# Altium footprint library Connector.PcbLib: 159 footprints (part 1 of 10)
Each footprint in its own frame and in the unit in brackets; x right, y up, seen from the top. Pads: shape width x height; smd on the part's side, far side on the other; paste and mask are expansions set on the pad; w line width, h text height; cw(c..) or ccw(c..) is an arc to the next point about the centre after c.
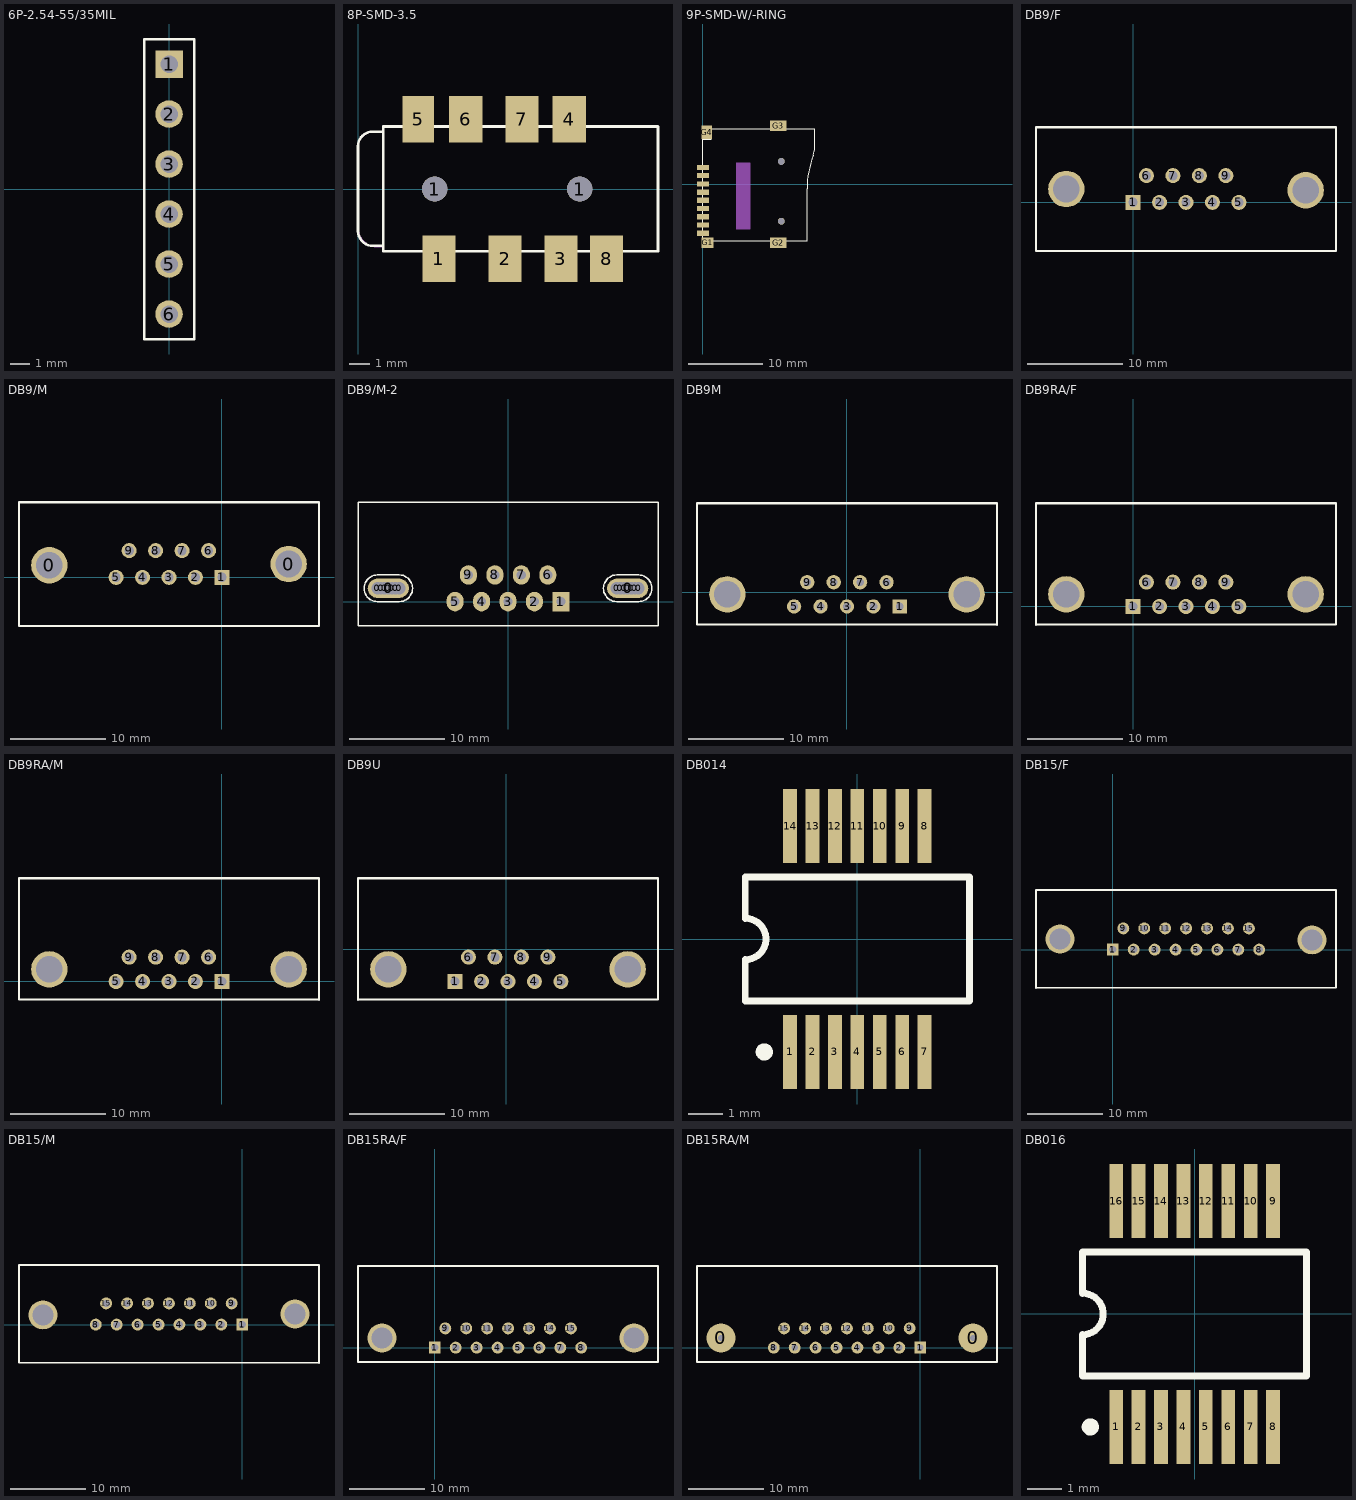
[diagram p0: the footprints below, top view; thin cyan lines are the x and y axes]

## 6P-2.54-55/35MIL [mil] "6P-2.54-55/35MIL"
pads (6):
  rect 55x55 hole 35: 1(0,250)
  round 55 hole 35: 2(0,150) 3(0,50) 4(0,-50) 5(0,-150) 6(0,-250)
Top Overlay:
  lines w5: -50,-300 -50,300 50,300 50,-300 -50,-300
Mechanical 2:
Mechanical 4:
Mechanical 16:
  lines w0: -50,-300 -50,300 50,300 50,-300 -50,-300
Mechanical 23:
  text ">name" at 25,-100 h38.75

## 8P-SMD-3.5 [mil] "8P-SMD-3.5"
pads (10):
  round 48 hole 48: 1(146,0) 1(422,0)
  rect 63x89 smd: 1(154,-132.87) 2(280,-132.87) 3(386,-132.87) 4(402,133) 6(205,133) 7(312,133) 8(473,-132.87)
  rect 60x89 smd: 5(115,133)
Top Overlay:
  lines w5: 48,-108.27 29,-108.27 cw(c28.65,-79.62) 0,-79.97 0,82 cw(c27.5,81.5) 28,109 48,109 ; 48,-108.27 48,-118.11 571,-118.11 571,119 48,119 48,109 ; 48,-108.27 48,109
Mechanical 2:
Mechanical 4:
Mechanical 11:
  lines w1: 0,-73.6 ccw(c36.7,-73.3) 37,-110 48,-110 48,108 28,108 ccw(c28,80) 0,80 0,-73.6

## 9P-SMD-W/-RING [mil] "9P-SMD-W/-RING"
pads (15):
  rect 63x28 smd: 1(0,89) 2(0,46) 3(0,2) 4(0,-41.34) 5(0,-84.65) 6(0,-127.95) 7(0,-171.26) 8(0,-214.57) 9(0,-257.87)
  round 36 hole 36: 1(414,-194.88) 1(414,121)
  rect 63x56 smd: G1(24,-309.06)
  rect 87x56 smd: G2(398,-309.06) G3(398,310)
  rect 56x71 smd: G4(20,274)
Top Overlay:
  lines w5: 0,-297.52 550,-297.52 550,-24.53 cw(c1051.58,-24.93) 583,154 ccw(c480.54,192.52) 590,193 590,293 45,293 45,238 0,238 0,-297.52
Mechanical 2:
Mechanical 4:
Mechanical 8:
  rectangle: 174,-240.16 252,115
Mechanical 23:
  text ">name" at 190,85 h15.5

## DB9/F [mil]
pads (11):
  rect 62x62 hole 38: 1(0,0)
  round 62 hole 38: 2(109,0) 3(218,0) 4(327,0) 5(436,0) 6(55,110) 7(164,110) 8(273,110) 9(382,110)
  round 150 hole 110: ""(-275,55) ""(711,50)
Top Overlay:
  lines w8: -400,-200 836,-200 836,310
  lines w10: -400,-200 -400,310 836,310

## DB9/M [mil]
pads (11):
  round 150 hole 110: 0(-711,50) 0(275,55)
  rect 62x62 hole 38: 1(0,0)
  round 62 hole 38: 2(-109,0) 3(-218,0) 4(-327,0) 5(-436,0) 6(-55,110) 7(-164,110) 8(-273,110) 9(-382,110)
Top Overlay:
  lines w8: -836,310 -836,-200 400,-200
  lines w10: -836,310 400,310 400,-200

## DB9/M-2 [mil]
pads (25):
  round 50 hole 50: 0(-538,55) 0(-523,55) 0(-508,55) 0(-493,55) 0(-478,55) 0(-463,55) 0(-448,55) 0(448,55) 0(463,55) 0(478,55) 0(493,55) 0(508,55) 0(523,55) 0(538,55)
  oval 170x80 hole 50: 0(-493,55) 0(493,55)
  rect 70x80 hole 38: 1(218,0)
  oval 70x80 hole 38: 2(109,0) 3(0,0) 4(-109,0) 5(-218,0) 6(164,110) 7(55,110) 8(-54,110) 9(-163,110)
Top Overlay:
  lines w6: -618,-100 -618,410 618,410 618,-100 -618,-100 ; -538,0 cw(c-538,55) -538,110 -448,110 cw(c-448,55) -448,0 -538,0 ; 448,0 cw(c448,55) 448,110 538,110 cw(c538,55) 538,0 448,0

## DB9M [mm]
pads (11):
  rect 1.5x1.5 hole 0.8: 1(5.554,-1.474)
  round 1.5 hole 0.8: 2(2.785,-1.474) 3(0.017,-1.474) 4(-2.752,-1.474) 5(-5.52,-1.474) 6(4.157,1.066) 7(1.388,1.066) 8(-1.38,1.066) 9(-4.149,1.066)
  round 3.8 hole 2.8: ""(-12.505,-0.204) ""(12.539,-0.204)
Top Overlay:
  lines w0.203: -15.68,9.321 -15.68,-3.379 15.714,-3.379
  lines w0.254: -15.68,9.321 15.714,9.321 15.714,-3.379

## DB9RA/F [mil]
pads (11):
  rect 62x62 hole 38: 1(0,0)
  round 62 hole 38: 2(109,0) 3(218,0) 4(327,0) 5(436,0) 6(55,100) 7(164,100) 8(273,100) 9(382,100)
  round 150 hole 110: ""(-275,50) ""(711,50)
Top Overlay:
  lines w8: -400,-75 836,-75 836,425
  lines w10: -400,-75 -400,425 836,425

## DB9RA/M [mil]
pads (11):
  rect 62x62 hole 38: 1(0,0)
  round 62 hole 38: 2(-109,0) 3(-218,0) 4(-327,0) 5(-436,0) 6(-55,100) 7(-164,100) 8(-273,100) 9(-382,100)
  round 150 hole 110: ""(-711,50) ""(275,50)
Top Overlay:
  lines w8: -836,425 -836,-75 400,-75
  lines w10: -836,425 400,425 400,-75

## DB9U [mil]
pads (11):
  rect 62x62 hole 38: 1(-211.81,-133.23)
  round 62 hole 38: 2(-102.81,-133.23) 3(6.19,-133.23) 4(115.19,-133.23) 5(224.19,-133.23) 6(-156.81,-33.23) 7(-47.81,-33.23) 8(61.19,-33.23) 9(170.19,-33.23)
  round 150 hole 110: ""(-486.81,-83.23) ""(499.19,-83.23)
Top Overlay:
  lines w8: -611.81,-208.23 624.19,-208.23 624.19,291.77
  lines w10: -611.81,-208.23 -611.81,291.77 624.19,291.77

## DB014 [mm] "SSOP, Plastic; 14 Leads; Body Width 5.3 mm; Pitch 0.65 mm"
height 2
pads (14):
  rect 0.4x2.15 smd: 1(-1.95,-3.275) 2(-1.3,-3.275) 3(-0.65,-3.275) 4(0,-3.275) 5(0.65,-3.275) 6(1.3,-3.275) 7(1.95,-3.275) 8(1.95,3.275) 9(1.3,3.275) 10(0.65,3.275) 11(0,3.275) 12(-0.65,3.275) 13(-1.3,3.275) 14(-1.95,3.275)
Top Overlay:
  circle w0.25: c-2.7,-3.275 r0.125
  lines w0.2: -3.25,-1.8 3.25,-1.8 3.25,1.8 -3.25,1.8 -3.25,0.6 cw(c-3.25,0) -3.25,-0.6 -3.25,-1.8

## DB15/F [mil]
pads (17):
  rect 62x62 hole 38: 1(0,0)
  round 62 hole 38: 2(109,0) 3(218,0) 4(327,0) 5(436,0) 6(545,0) 7(654,0) 8(763,0) 9(55,110) 10(164,110) 11(273,110) 12(382,110) 13(491,110) 14(600,110) 15(709,110)
  round 150 hole 110: ""(-275,55) ""(1038,50)
Top Overlay:
  lines w8: -400,-200 1163,-200 1163,310
  lines w10: -400,-200 -400,310 1163,310

## DB15/M [mil]
pads (17):
  rect 62x62 hole 38: 1(0,0)
  round 62 hole 38: 2(-109,0) 3(-218,0) 4(-327,0) 5(-436,0) 6(-545,0) 7(-654,0) 8(-763,0) 9(-55,110) 10(-164,110) 11(-273,110) 12(-382,110) 13(-491,110) 14(-600,110) 15(-709,110)
  round 150 hole 110: ""(-1038,50) ""(275,55)
Top Overlay:
  lines w8: -1163,310 -1163,-200 400,-200
  lines w10: -1163,310 400,310 400,-200

## DB15RA/F [mil]
pads (17):
  rect 62x62 hole 38: 1(0,0)
  round 62 hole 38: 2(109,0) 3(218,0) 4(327,0) 5(436,0) 6(545,0) 7(654,0) 8(763,0) 9(55,100) 10(164,100) 11(273,100) 12(382,100) 13(491,100) 14(600,100) 15(709,100)
  round 150 hole 110: ""(-275,50) ""(1038,50)
Top Overlay:
  lines w8: -400,-75 1163,-75 1163,425
  lines w10: -400,-75 -400,425 1163,425

## DB15RA/M [mil]
pads (17):
  round 150 hole 32: 0(-1038,50) 0(275,50)
  rect 62x62 hole 32: 1(0,0)
  round 62 hole 32: 2(-109,0) 3(-218,0) 4(-327,0) 5(-436,0) 6(-545,0) 7(-654,0) 8(-763,0) 9(-55,100) 10(-164,100) 11(-273,100) 12(-382,100) 13(-491,100) 14(-600,100) 15(-709,100)
Top Overlay:
  lines w8: -1163,425 -1163,-75 400,-75
  lines w10: -1163,425 400,425 400,-75

## DB016 [mm] "SSOP, Plastic; 16 Leads; Body Width 5.3 mm; Pitch 0.65 mm"
height 2
pads (16):
  rect 0.4x2.15 smd: 1(-2.275,-3.275) 2(-1.625,-3.275) 3(-0.975,-3.275) 4(-0.325,-3.275) 5(0.325,-3.275) 6(0.975,-3.275) 7(1.625,-3.275) 8(2.275,-3.275) 9(2.275,3.275) 10(1.625,3.275) 11(0.975,3.275) 12(0.325,3.275) 13(-0.325,3.275) 14(-0.975,3.275) 15(-1.625,3.275) 16(-2.275,3.275)
Top Overlay:
  circle w0.25: c-3.025,-3.275 r0.125
  lines w0.2: -3.25,-1.8 3.25,-1.8 3.25,1.8 -3.25,1.8 -3.25,0.6 cw(c-3.25,0) -3.25,-0.6 -3.25,-1.8